# EAGLE library part USB_ZX62RD-AB-5P8 (library Rebel)
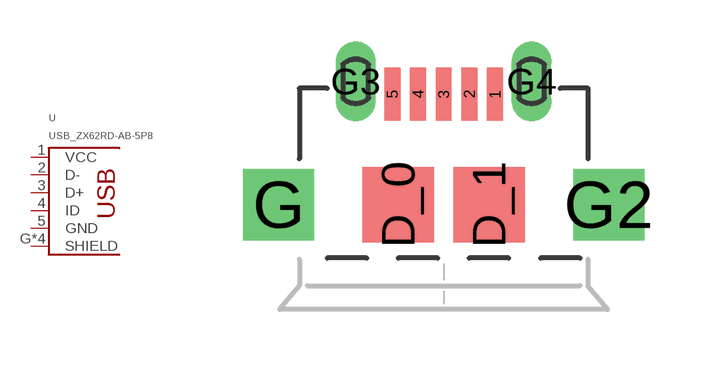
[diagram p6: symbol with the pads of HRS_ZX62RD-AB-5P8; footprint HRS_ZX62RD-AB-5P8]

Designator prefix -

## USB_ZX62RD-AB-5P8  [HRS_ZX62RD-AB-5P8]
1  VCC
2  D-
3  D+
4  ID
5  GND
G  SHIELD
G2  SHIELD
G3  SHIELD
G4  SHIELD

## Footprint HRS_ZX62RD-AB-5P8 (pad centres in mm)
smd 0.4 x 1.35: 1 1.3,2.275; 2 0.65,2.275; 3 0,2.275; 4 -0.65,2.275; 5 -1.3,2.275
smd 1.8 x 1.9: D_0 -1.15,-0.525; D_1 1.15,-0.525
drill 1 pad 1.8 square: G -4.175,-0.525; G2 4.175,-0.525
drill 0.5 long: G3 -2.225,2.6; G4 2.225,2.6